# Altium footprint library mach_canh_bao_lu_2.PcbLib: 41 footprints (part 3 of 3)
Each footprint in its own frame and in the unit in brackets; x right, y up, seen from the top. Pads: shape width x height; smd on the part's side, far side on the other; paste and mask are expansions set on the pad; w line width, h text height; cw(c..) or ccw(c..) is an arc to the next point about the centre after c.
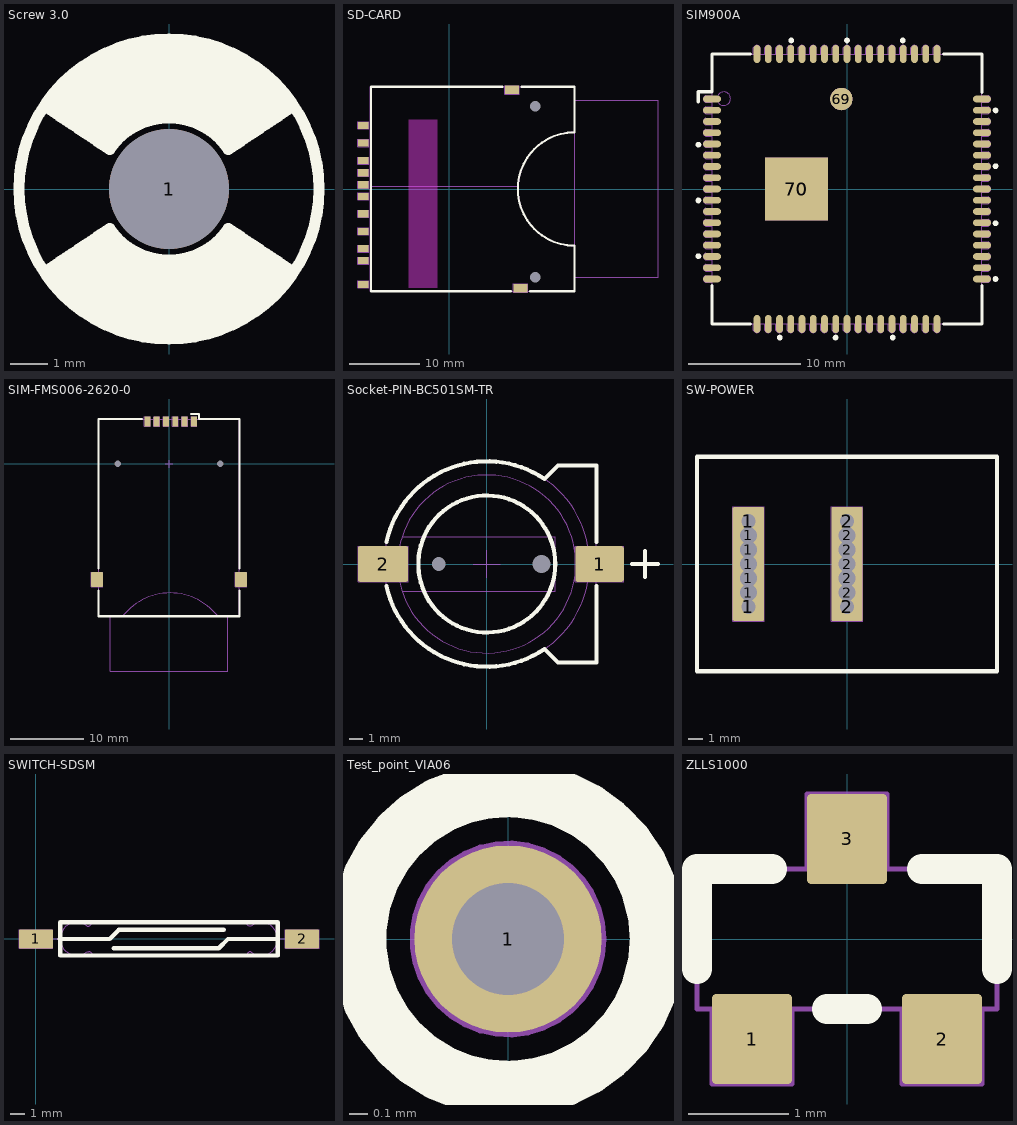
[diagram p2: the footprints below, top view; thin cyan lines are the x and y axes]

## Screw 3.0 [mm] "Hole 3.0mm"
height 10
pads (1):
  round 3.2 hole 3.2 mask+0.1: 1(0,0)
Top Overlay:
  circle w0.3: c0,0 r4
  lines w0.3: -3.162,-2.108 ccw(c0,0) 3.162,-2.108 ; -3.162,2.108 cw(c0,0) 3.162,2.108 ; -3.079,-2.052 ccw(c0,0) 3.079,-2.052 ; -3.079,2.052 cw(c0,0) 3.079,2.052 ; -2.995,-1.997 ccw(c0,0) 2.995,-1.997 ; -2.995,1.997 cw(c0,0) 2.995,1.997 ; -2.912,-1.941 ccw(c0,0) 2.912,-1.941 ; -2.912,1.941 cw(c0,0) 2.912,1.941 ; -2.829,-1.886 ccw(c0,0) 2.829,-1.886 ; -2.829,1.886 cw(c0,0) 2.829,1.886 ; -2.746,-1.831 ccw(c0,0) 2.746,-1.831 ; -2.746,1.831 cw(c0,0) 2.746,1.831 ; -2.663,-1.775 ccw(c0,0) 2.663,-1.775 ; -2.663,1.775 cw(c0,0) 2.663,1.775 ; -2.579,-1.72 ccw(c0,0) 2.579,-1.72 ; -2.579,1.72 cw(c0,0) 2.579,1.72 ; -2.496,-1.664 ccw(c0,0) 2.496,-1.664 ; -2.496,1.664 cw(c0,0) 2.496,1.664 ; -2.33,-1.553 ccw(c0,0) 2.33,-1.553 ; -2.33,1.553 cw(c0,0) 2.33,1.553 ; -2.247,-1.498 ccw(c0,0) 2.247,-1.498 ; -2.247,1.498 cw(c0,0) 2.247,1.498 ; -2.163,-1.442 ccw(c0,0) 2.163,-1.442 ; -2.163,1.442 cw(c0,0) 2.163,1.442 ; -1.997,-1.331 ccw(c0,0) 1.997,-1.331 ; -1.997,1.331 cw(c0,0) 1.997,1.331 ; -1.831,-1.22 ccw(c0,0) 1.831,-1.22 ; -1.831,1.22 cw(c0,0) 1.831,1.22 ; -1.747,-1.165 ccw(c0,0) 1.747,-1.165 ; -1.747,1.165 cw(c0,0) 1.747,1.165 ; -1.664,-1.109 ccw(c0,0) 1.664,-1.109 ; -1.664,1.109 cw(c0,0) 1.664,1.109 ; -1.581,-1.054 ccw(c0,0) 1.581,-1.054 ; -1.581,1.054 cw(c0,0) 1.581,1.054 ; -2.413,-1.609 ccw(c0,0) 2.413,-1.609 cw(c0,0) -2.413,-1.609 ; -2.413,1.609 cw(c0,0) 2.413,1.609 ccw(c0,0) -2.413,1.609 ; -2.08,-1.387 ccw(c0,0) 2.08,-1.387 cw(c0,0) -2.08,-1.387 ; -2.08,1.387 cw(c0,0) 2.08,1.387 ccw(c0,0) -2.08,1.387 ; -1.914,-1.276 ccw(c0,0) 1.914,-1.276 cw(c0,0) -1.914,-1.276 ; -1.914,1.276 cw(c0,0) 1.914,1.276 ccw(c0,0) -1.914,1.276
3D body "Screw-3mmX10mm.step": height 1.73, standoff -10, extent -2.5,-2.5 2.5,2.5

## SD-CARD [mm]
height 2.7
pads (15):
  rrect10% 1.5x1 smd mask+0.1: 1(-12.155,6.5) 2(-12.155,4) 3(-12.155,0.6) 4(-12.155,-1.05) 5(-12.155,-3.5) 6(-12.155,-6) 7(-12.155,-8.43) 8(-12.155,-10.13) 9(-12.155,9) CD(-12.155,2.3)
  rrect10% 2x1.2 smd mask+0.1: GND1(10.055,-14) GND2(8.855,14)
  round 0 hole 1.5 mask+0.1: HOLE(12.155,-12.45) HOLE1(12.155,11.7)
  rrect10% 1.5x1 smd: WP(-12.155,-13.48)
Top Overlay:
  lines w0.3: 7.545,14.45 -11.055,14.45 -11.055,-14.45 8.695,-14.45 ; 10.195,14.45 17.697,14.45 17.697,8.006 ccw(c17.697,0) 17.697,-8.006 17.697,-14.45 11.395,-14.45
Keep-Out Layer:
  rectangle: -5.745,-14 -1.645,9.8
Mechanical 1:
  lines w0.05: -11.203,0.4 9.695,0.4 ; 17.697,-12.48 29.497,-12.48 29.497,12.52 17.697,12.52 ; 17.697,-8.006 cw(c17.697,0) 17.697,8.006 ; -12.905,-13.98 -11.405,-13.98 -11.405,-12.98 -12.905,-12.98 -12.905,-13.98 ; -12.905,-10.63 -12.905,-9.63 -11.405,-9.63 -11.405,-10.63 -12.905,-10.63 ; -12.905,-8.93 -12.905,-7.93 -11.405,-7.93 -11.405,-8.93 -12.905,-8.93 ; -12.905,-6.5 -12.905,-5.5 -11.405,-5.5 -11.405,-6.5 -12.905,-6.5 ; -12.905,-4 -12.905,-3 -11.405,-3 -11.405,-4 -12.905,-4 ; -12.905,-1.55 -12.905,-0.55 -11.405,-0.55 -11.405,-1.55 -12.905,-1.55 ; -12.905,0.1 -12.905,1.1 -11.405,1.1 -11.405,0.1 -12.905,0.1 ; -12.905,1.8 -12.905,2.8 -11.405,2.8 -11.405,1.8 -12.905,1.8 ; -12.905,3.5 -12.905,4.5 -11.405,4.5 -11.405,3.5 -12.905,3.5 ; -12.905,6 -12.905,7 -11.405,7 -11.405,6 -12.905,6 ; -12.905,8.5 -12.905,9.5 -11.405,9.5 -11.405,8.5 -12.905,8.5 ; -11.203,-14.45 17.697,-14.45 17.697,14.45 -11.203,14.45 -11.203,-14.45 ; 7.855,13.4 9.855,13.4 9.855,14.6 7.855,14.6 7.855,13.4 ; 9.055,-14.6 9.055,-13.4 11.055,-13.4 11.055,-14.6 9.055,-14.6
  text "D2" at -10.655,8.5 h1
  text "D3" at -10.655,6 h1
  text "CMD" at -10.655,3.5 h1
  text "VSS1" at -10.655,0.15 h1
  text "VDD" at -10.655,-1.55 h1
  text "CLK" at -10.655,-4 h1
  text "VSS2" at -10.655,-6.5 h1
  text "D0" at -10.655,-8.9 h1
  text "D1" at -10.655,-10.6 h1
  text ".Designator" at 0.2,0.15 h0.4
3D body "socket_a-sd-09-c-a-1-3.stp": height 2.65, standoff -0.7, extent -12.319,-14.449 17.981,14.351

## SIM900A [mm] "SIM900A_SMD"
height 2
pads (72):
  oval 1.6x0.6 smd: 1(-12,8) 2(-12,7) 3(-12,6) 4(-12,5) 5(-12,4) 6(-12,3) 7(-12,2) 8(-12,1) 9(-12,0) 10(-12,-1) 11(-12,-2) 12(-12,-3) 13(-12,-4) 14(-12,-5) 15(-12,-6) 16(-12,-7) 17(-12,-8) 35(12,-8) 36(12,-7) 37(12,-6) 38(12,-5) 39(12,-4) 40(12,-3) 41(12,-2) 42(12,-1) 43(12,0) 44(12,1) 45(12,2) 46(12,3) 47(12,4) 48(12,5) 49(12,6) 50(12,7) 51(12,8)
  oval 0.6x1.6 smd: 18(-8,-12) 19(-7,-12) 20(-6,-12) 21(-5,-12) 22(-4,-12) 23(-3,-12) 24(-2,-12) 25(-1,-12) 26(0,-12) 27(1,-12) 28(2,-12) 29(3,-12) 30(4,-12) 31(5,-12) 32(6,-12) 33(7,-12) 34(8,-12) 52(8,12) 53(7,12) 54(6,12) 55(5,12) 56(4,12) 57(3,12) 58(2,12) 59(1,12) 60(0,12) 61(-1,12) 62(-2,12) 63(-3,12) 64(-4,12) 65(-5,12) 66(-6,12) 67(-7,12) 68(-8,12)
  round 2 smd mask+0.1: 69(-0.5,8)
  round 2 on Mech1 mask+0.1: 69(-0.5,8)
  rect 5.6x5.6 smd mask+0.1: 70(-4.5,0)
  rect 5.6x5.6 on Mech1 mask+0.1: 70(-4.5,0)
Top Overlay:
  circle w0.254: c-13.208,3.937 r0.127
  circle w0.254: c-13.208,-1.016 r0.127
  circle w0.254: c-13.208,-5.969 r0.127
  circle w0.254: c-5.969,-13.208 r0.127
  circle w0.254: c-1.016,-13.208 r0.127
  circle w0.254: c4.064,-13.208 r0.127
  circle w0.254: c13.208,-8.001 r0.127
  circle w0.254: c13.208,-3.048 r0.127
  circle w0.254: c13.208,2.032 r0.127
  circle w0.254: c13.208,6.985 r0.127
  circle w0.254: c4.953,13.208 r0.127
  circle w0.254: c0,13.208 r0.127
  circle w0.254: c-4.953,13.208 r0.127
  lines w0.3: -13.208,7.747 -13.208,8.636 -12,8.636 -12,12 -8.6,12 ; -12,-8.6 -12,-12 -8.6,-12 ; 8.6,-12 12,-12 12,-8.6 ; 8.6,12 12,12 12,8.6
Mechanical 1:
  drawing of 209 lines, arcs and shapes, not listed
  text ".Designator" at -0.013,-0.1 h0.4
  text "68" at -8.636,10.698 h1
  text "52" at 7.62,10.698 h1
  text "51" at 10.444,7.62 h1
  text "35" at 10.444,-8.382 h1
  text "34" at 7.62,-11.46 h1
  text "18" at -8.382,-11.46 h1
  text "17" at -11.46,-8.382 h1
3D body "SIM900.step": height 3.02, standoff 0, extent -12,-12 12,12

## SIM-FMS006-2620-0 [mm] "KHE SIM"
height 1.85
pads (10):
  rrect10% 0.8x1.35 smd mask+0.1: 1(3.4,5.775) 2(0.86,5.775) 3(-1.68,5.775) 5(2.13,5.775) 6(-0.41,5.775) 7(-2.95,5.775)
  rrect0% 0x0 hole 0.9 mask+0.1: HOLE1(-7,0) HOLE2(7,0)
  rrect10% 1.6x2 smd mask+0.1: PAD1(-9.8,-15.75) PAD2(9.8,-15.75)
Top Overlay:
  lines w0.3: -9.6,-17.25 -9.6,-20.75 9.6,-20.75 9.6,-17.25 ; -9.6,-14.25 -9.6,-0.613 -9.6,6.1 -3.7,6.1 ; 3,6.8 4.1,6.8 4.1,6.1 9.6,6.1 9.6,-0.613 9.6,-14.25
Mechanical 1:
  lines w0.05: -8,-20.75 -8,-28.25 8,-28.25 8,-20.75 ; -6.302,-20.72 cw(c0.169,-25.831) 6.639,-20.719 ; -0.5,0 0.5,0 ; 0,-0.5 0,0.5 ; 10.6,-16.75 10.6,-14.75 ; 10.6,-16.75 9,-16.75 9,-14.75 10.6,-14.75 ; 10.6,-16.75 10.6,-14.75 ; -10.6,-16.75 -9,-16.75 -9,-14.75 -10.6,-14.75 -10.6,-16.75 ; -9.6,-20.75 9.6,-20.75 9.6,6.1 -9.6,6.1 -9.6,-20.75 ; -3.35,5.1 -3.35,6.45 -2.55,6.45 -2.55,5.1 -3.35,5.1 ; -2.08,5.1 -2.08,6.45 -1.28,6.45 -1.28,5.1 -2.08,5.1 ; -0.81,5.1 -0.81,6.45 -0.01,6.45 -0.01,5.1 -0.81,5.1 ; 0.46,5.1 0.46,6.45 1.26,6.45 1.26,5.1 0.46,5.1 ; 1.73,5.1 1.73,6.45 2.53,6.45 2.53,5.1 1.73,5.1 ; 3,5.1 3.8,5.1 3.8,6.45 3,6.45 3,5.1
  text "7" at -3.5,3.5 h1
  text "3" at -2.1,3.5 h1
  text "6" at -0.7,3.5 h1
  text "2" at 0.7,3.5 h1
  text "5" at 2.1,3.5 h1
  text "1" at 3.5,3.5 h1
  text ".Designator" at 0.7,-1.8 h0.4
3D body "User Library-115A-ADA0-R02.step": height 1.8, standoff 0, extent -10.221,-20.87 10.729,6.13

## Socket-PIN-BC501SM-TR [mm] "coin cell holder for CR1220"
height 4.94
pads (4):
  rrect10% 3.54x2.6 smd mask+0.1: 1(8.23,0)
  rrect10% 3.66x2.6 smd mask+0.1: 2(-7.57,0)
  round 0 hole 1 mask+0.1: hole1(-3.5,0)
  round 0 hole 1.3 mask+0.1: hole2(4,0)
Top Overlay:
  circle w0.3: c0,0 r5
  lines w0.3: -7.326,-1.606 ccw(c0,0) 4.206,-6.209 ; -7.326,1.606 cw(c0,0) 4.206,6.209 ; 4.208,-6.208 5.2,-7.2 8,-7.2 8,-1.6 ; 4.208,6.208 5.2,7.2 8,7.2 8,1.6 ; 10.6,0 12.5,0 ; 11.55,-0.95 11.55,0.95
Mechanical 1:
  lines w0.05: -6.15,-2 5,-2 5,2 -6.15,2 ; -1,0 1,0 ; 0,-1 0,1 ; 4.2,-6.2 5.2,-7.2 8,-7.2 8,7.2 5.2,7.2 4.2,6.2 ; 6.451,-0.799 cw(c0,0) 6.462,0.7 ; 7.384,-1.313 cw(c0,0) 7.384,1.313 ; -9.4,-1.3 -5.74,-1.3 -5.74,1.3 -9.4,1.3 -9.4,-1.3 ; 6.46,-1.3 10,-1.3 10,1.3 6.46,1.3 6.46,-1.3
  text ".Designator" at 0,-0.1 h0.4
3D body "User Library-bat_holder_ch7410_2032.STEP": height 5.4, standoff 0, extent -12.248,-8.127 12.003,7.873

## SW-POWER [mm] "switch power"
height 18
pads (14):
  rrect10% 2.2x2 hole 1 mask+0.1: 1(-6.9,-3) 1(-6.9,3) 2(0,-3) 2(0,3)
  rrect10% 2.2x1.3 hole 1.2 mask+0.1: 1(-6.9,-2) 1(-6.9,-1) 1(-6.9,0) 1(-6.9,1) 1(-6.9,2) 2(0,-2) 2(0,-1) 2(0,0) 2(0,1) 2(0,2)
Top Overlay:
  lines w0.3: -10.5,-7.5 -10.5,7.5 10.5,7.5 10.5,-7.5 -10.5,-7.5
Mechanical 1:
  lines w0.05: -10.5,-7.5 -10.5,7.5 10.5,7.5 10.5,-7.5 -10.5,-7.5 ; -8,-4 -5.8,-4 -5.8,4 -8,4 -8,-4 ; -1.1,-4 -1.1,4 1.1,4 1.1,-4 -1.1,-4
  text ".Designator" at -3.8,-0.4 h0.4
3D body "User Library-on-off buton.step": height 20, standoff -2, extent -10.72,-7.579 10.28,7.421

## SWITCH-SDSM [mm] "MDSM-4 15.3mm Surface Mount Reed Switch"
height 2.84
pads (2):
  rrect10% 2.34x1.3 smd mask+0.1: 1(0,0) 2(18.34,0)
Top Overlay:
  lines w0.3: 1.651,0 5.08,0 5.715,0.635 12.954,0.635 ; 5.367,-0.635 12.606,-0.635 13.241,0 16.67,0 ; 1.67,-1.14 16.67,-1.14 16.67,1.14 1.67,1.14 1.67,-1.14
Mechanical 1:
  lines w0.05: 1.169,0 1.677,0 ; 3.522,-0.89 cw(c2.813,0.003) 3.531,0.889 3.585,0.889 ccw(c3.585,1.14) 3.836,1.14 14.504,1.14 ccw(c14.751,1.14) 14.81,0.9 ; 3.522,-0.884 3.639,-0.884 cw(c3.639,-1.14) 3.895,-1.14 14.535,-1.14 cw(c14.79,-1.14) 14.79,-0.886 ; 14.802,-0.886 ccw(c15.52,0) 14.812,0.893 ; 16.663,0 17.171,0 ; -1.17,-0.65 1.17,-0.65 1.17,0.65 -1.17,0.65 -1.17,-0.65 ; 17.17,-0.65 17.17,0.65 19.51,0.65 19.51,-0.65 17.17,-0.65
  text ".Designator" at 8.9,-0.1 h0.4
3D body "Standex-Meder Electronics-MK01.step": height 2.83, standoff -0.43, extent -0.053,-1.85 18.489,1.85

## Test_point_VIA06 [mm] "Test point do not mount"
height 0.9
pads (1):
  round 1 hole 0.6: 1(0,0)
Top Overlay:
  circle w0.3: c0,0 r0.8
Mechanical 1:
  circle w0.05: c0,0 r0.5
  text ".Designator" at 0,0 h0.4

## ZLLS1000 [mm] "40V HIGH CURRENT LOW LEAKAGE SCHOTTKY DIODE"
height 1.2
pads (3):
  rrect10% 0.8x0.9 smd mask+0.1: 1(-0.95,-1) 2(0.95,-1) 3(0,1)
Top Overlay:
  lines w0.3: -1.5,-0.3 -1.5,0.7 -0.75,0.7 ; -0.2,-0.7 0.2,-0.7 ; 0.75,0.7 1.5,0.7 1.5,-0.3
Mechanical 1:
  lines w0.05: -1.5,-0.7 -1.5,0.7 1.5,0.7 1.5,-0.7 -1.5,-0.7 ; -1.35,-1.45 -0.55,-1.45 -0.55,-0.7 -1.35,-0.7 -1.35,-1.45 ; -0.4,0.7 0.4,0.7 0.4,1.45 -0.4,1.45 -0.4,0.7 ; 0.55,-1.45 1.35,-1.45 1.35,-0.7 0.55,-0.7 0.55,-1.45
  text "NC" at 0.65,-1.25 h1
  text "A" at -1.1,-1.3 h1
  text "K" at -0.1,0.9 h1
  text ".Designator" at 0,0.1 h0.4
3D body "SW3DPS-SOT-23-DEFAULT.STEP": height 1.06, standoff -0.04, extent -1.475,-1.316 1.525,1.184